# Altium footprint library RESC6331X055A.PcbLib: 3 footprints
Each footprint in its own frame and in the unit in brackets; x right, y up, seen from the top. Pads: shape width x height; smd on the part's side, far side on the other; paste and mask are expansions set on the pad; w line width, h text height; cw(c..) or ccw(c..) is an arc to the next point about the centre after c.
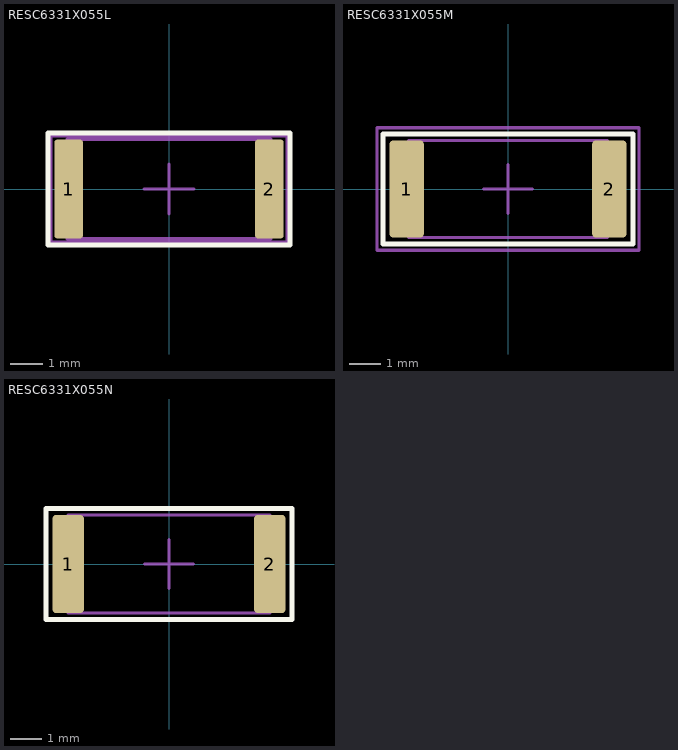
[diagram p0: the footprints below, top view; thin cyan lines are the x and y axes]

## RESC6331X055L [mm] "Resistors, Chip"
height 0.65
pads (2):
  rrect25% 0.9x3.1 smd: 1(-3.13,0) 2(3.13,0)
Top Overlay:
  lines w0.16: -3.78,-1.75 3.78,-1.75 3.78,1.75 -3.78,1.75 -3.78,-1.75
Top Component Center:
  lines w0.1: -0.775,0 0.775,0 ; 0,-0.775 0,0.775
Top Courtyard:
  lines w0.1: -3.68,-1.65 3.68,-1.65 3.68,1.65 -3.68,1.65 -3.68,-1.65
Top Assembly:
  lines w0.1: -3.175,-1.55 3.175,-1.55 3.175,1.55 -3.175,1.55 -3.175,-1.55
  text ".Designator" at 0,0 h1
3D body "RESC6331X055L.STEP": height 0.55, standoff 0, extent -3.175,-1.55 3.175,1.55

## RESC6331X055M [mm] "Resistors, Chip"
height 0.65
pads (2):
  rrect23% 1.1x3.1 smd: 1(-3.23,0) 2(3.23,0)
Top Overlay:
  lines w0.16: -3.98,-1.75 3.98,-1.75 3.98,1.75 -3.98,1.75 -3.98,-1.75
Top Component Center:
  lines w0.1: -0.775,0 0.775,0 ; 0,-0.775 0,0.775
Top Courtyard:
  lines w0.1: -4.18,-1.95 4.18,-1.95 4.18,1.95 -4.18,1.95 -4.18,-1.95
Top Assembly:
  lines w0.1: -3.175,-1.55 3.175,-1.55 3.175,1.55 -3.175,1.55 -3.175,-1.55
  text ".Designator" at 0,0 h1
3D body "RESC6331X055M.STEP": height 0.55, standoff 0, extent -3.175,-1.55 3.175,1.55

## RESC6331X055N [mm] "Resistors, Chip"
height 0.65
pads (2):
  rrect25% 1x3.1 smd: 1(-3.18,0) 2(3.18,0)
Top Overlay:
  lines w0.16: -3.88,-1.75 3.88,-1.75 3.88,1.75 -3.88,1.75 -3.88,-1.75
Top Component Center:
  lines w0.1: -0.775,0 0.775,0 ; 0,-0.775 0,0.775
Top Courtyard:
  lines w0.1: -3.88,-1.75 3.88,-1.75 3.88,1.75 -3.88,1.75 -3.88,-1.75
Top Assembly:
  lines w0.1: -3.175,-1.55 3.175,-1.55 3.175,1.55 -3.175,1.55 -3.175,-1.55
  text ".Designator" at 0,0 h1
3D body "RESC6331X055N.STEP": height 0.55, standoff 0, extent -3.175,-1.55 3.175,1.55